# Altium schematic symbol library LX1-FTDI.SchLib: 1 symbol
Pins are listed as number, name and electrical type; pins without a type are passive.

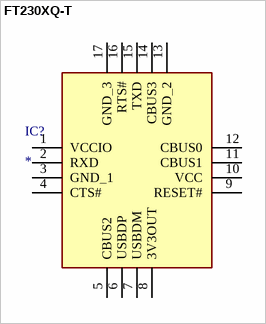
[diagram p0: symbol FT230XQ-T]

## FT230XQ-T
designator IC?
Integrated Circuit; Manufacturer_Name: FTDI Chip; Manufacturer_Part_Number: FT230XQ-T; Allied_Number: 70403915; Datasheet Link: https://www.ftdichip.com/Support/Documents/DataSheets/ICs/DS_FT230X.pdf; Height: 0.8mm; Mouser Part Number: 895-FT230XQ-T; Mouser Price/Stock: https://www.mouser.com/Search/Refine.aspx?Keyword=895-FT230XQ-T; RS Part Number: 8888716; RS Price/Stock: http://uk.rs-online.com/web/p/products/8888716; Allied Price/Stock: https://www.alliedelec.com/ftdi-ft230xq-t/70403915/
footprint QFN65P400X400X80-17N
pins: 1 VCCIO, 2 RXD, 3 GND_1, 4 CTS#, 5 CBUS2, 6 USBDP, 7 USBDM, 8 3V3OUT, 9 RESET#, 10 VCC, 11 CBUS1, 12 CBUS0, 13 GND_2, 14 CBUS3, 15 TXD, 16 RTS#, 17 GND_3